# EAGLE library part SN74CBT16214DGGR (library SN74CBT16214DGGR)
None
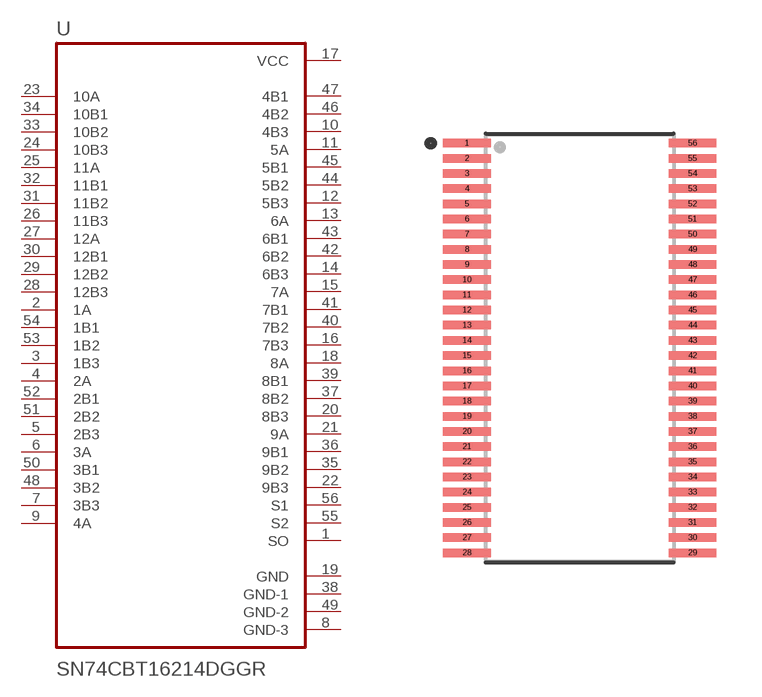
[diagram p0: symbol with the pads of SOP50P810X120-56N; footprint SOP50P810X120-56N]

Designator prefix U

## SN74CBT16214DGGR (Availability: Good; Description: Multiplexer/Demultiplexer Bus Switch 1-Element CMOS 36-IN 56-Pin TSSOP T/R; MF: Texas Instruments; MP: SN74CBT16214DGGR; Package: TSSOP-56 Texas Instruments; Price: 1.31 USD)  [SOP50P810X120-56N]
1  SO
2  1A
3  1B3
4  2A
5  2B3
6  3A
7  3B3
8  GND-3  pwr
9  4A
10  4B3
11  5A
12  5B3
13  6A
14  6B3
15  7A
16  7B3
17  VCC  pwr
18  8A
19  GND  pwr
20  8B3
21  9A
22  9B3
23  10A
24  10B3
25  11A
26  11B3
27  12A
28  12B3
29  12B2
30  12B1
31  11B2
32  11B1
33  10B2
34  10B1
35  9B2
36  9B1
37  8B2
38  GND-1  pwr
39  8B1
40  7B2
41  7B1
42  6B2
43  6B1
44  5B2
45  5B1
46  4B2
47  4B1
48  3B2
49  GND-2  pwr
50  3B1
51  2B2
52  2B1
53  1B2
54  1B1
55  S2
56  S1

## Footprint SOP50P810X120-56N (pad centres in mm)
smd 1.57 x 0.28: 1 -3.72,6.75; 2 -3.72,6.25; 3 -3.72,5.75; 4 -3.72,5.25; 5 -3.72,4.75; 6 -3.72,4.25; 7 -3.72,3.75; 8 -3.72,3.25; 9 -3.72,2.75; 10 -3.72,2.25; 11 -3.72,1.75; 12 -3.72,1.25; 13 -3.72,0.75; 14 -3.72,0.25; 15 -3.72,-0.25; 16 -3.72,-0.75; 17 -3.72,-1.25; 18 -3.72,-1.75; 19 -3.72,-2.25; 20 -3.72,-2.75; 21 -3.72,-3.25; 22 -3.72,-3.75; 23 -3.72,-4.25; 24 -3.72,-4.75; 25 -3.72,-5.25; 26 -3.72,-5.75; 27 -3.72,-6.25; 28 -3.72,-6.75; 29 3.72,-6.75; 30 3.72,-6.25; 31 3.72,-5.75; 32 3.72,-5.25; 33 3.72,-4.75; 34 3.72,-4.25; 35 3.72,-3.75; 36 3.72,-3.25; 37 3.72,-2.75; 38 3.72,-2.25; 39 3.72,-1.75; 40 3.72,-1.25; 41 3.72,-0.75; 42 3.72,-0.25; 43 3.72,0.25; 44 3.72,0.75; 45 3.72,1.25; 46 3.72,1.75; 47 3.72,2.25; 48 3.72,2.75; 49 3.72,3.25; 50 3.72,3.75; 51 3.72,4.25; 52 3.72,4.75; 53 3.72,5.25; 54 3.72,5.75; 55 3.72,6.25; 56 3.72,6.75